# EAGLE library part RN52 (library NASA_LIB)
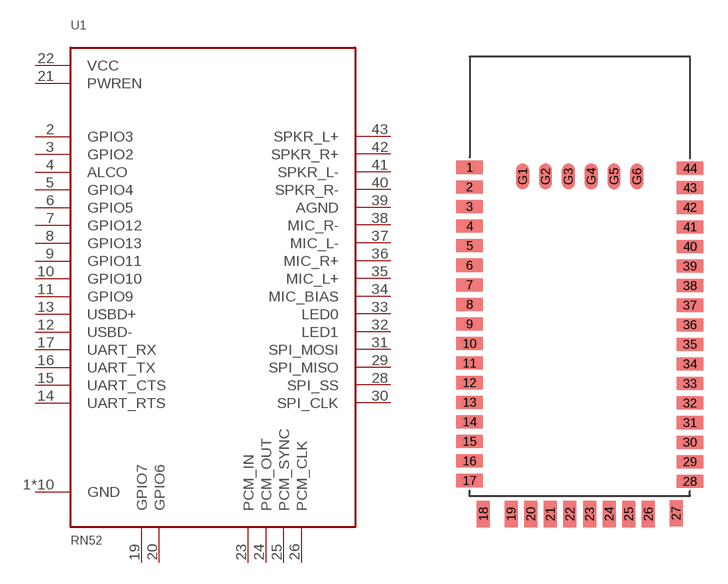
[diagram p47: symbol with the pads of RN-52; footprint RN-52]

Designator prefix U1

## RN52  [RN-52]
1  GND
2  GPIO3
3  GPIO2
4  ALCO
5  GPIO4
6  GPIO5
7  GPIO12
8  GPIO13
9  GPIO11
10  GPIO10
11  GPIO9
12  USBD-
13  USBD+
14  UART_RTS
15  UART_CTS
16  UART_TX
17  UART_RX
18  GND
19  GPIO7
20  GPIO6
21  PWREN
22  VCC
23  PCM_IN
24  PCM_OUT
25  PCM_SYNC
26  PCM_CLK
27  GND
28  SPI_SS
29  SPI_MISO
30  SPI_CLK
31  SPI_MOSI
32  LED1
33  LED0
34  MIC_BIAS
35  MIC_L+
36  MIC_R+
37  MIC_L-
38  MIC_R-
39  AGND
40  SPKR_R-
41  SPKR_L-
42  SPKR_R+
43  SPKR_L+
44  GND
G1  GND
G2  GND
G3  GND
G4  GND
G5  GND
G6  GND

## Footprint RN-52 (pad centres in mm)
smd 1.6 x 0.8: 1 0,19.2; 2 0,18; 3 0,16.8; 4 0,15.6; 5 0,14.4; 6 0,13.2; 7 0,12; 8 0,10.8; 9 0,9.6; 10 0,8.4; 11 0,7.2; 12 0,6; 13 0,4.8; 14 0,3.6; 15 0,2.4; 16 0,1.2; 17 0,0; 28 13.5,-0.05; 29 13.5,1.15; 30 13.5,2.35; 31 13.5,3.55; 32 13.5,4.75; 33 13.5,5.95; 34 13.5,7.15; 35 13.5,8.35; 36 13.5,9.55; 37 13.5,10.75; 38 13.5,11.95; 39 13.5,13.15; 40 13.5,14.35; 41 13.5,15.55; 42 13.5,16.75; 43 13.5,17.95; 44 13.5,19.15
smd 0.8 x 1.6: 18 0.85,-2.05; 19 2.55,-2.05; 20 3.75,-2.05; 21 4.95,-2.05; 22 6.15,-2.05; 23 7.35,-2.05; 24 8.55,-2.05; 25 9.75,-2.05; 26 10.95,-2.05; 27 12.65,-2; G1 3.25,18.65; G2 4.65,18.65; G3 6.05,18.65; G4 7.45,18.65; G5 8.85,18.65; G6 10.25,18.65